# Altium schematic symbol library Resistors.SchLib: 9 symbols
Pins are listed as number, name and electrical type; pins without a type are passive.

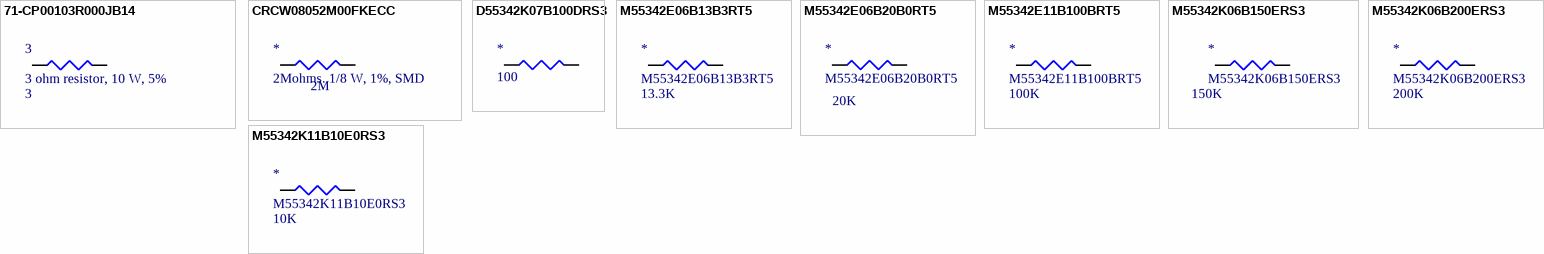
[diagram p0: symbols 71-CP00103R000JB14 to M55342K11B10E0RS3]

## 71-CP00103R000JB14
designator 3, comment 3 ohm resistor, 10 W, 5%
3; Parameter 1: 3
pins: 1, 2

## CRCW08052M00FKECC
designator *, comment 2Mohms. 1/8 W, 1%, SMD
2M; Parameter 1: 2M
pins: 1, 2

## D55342K07B100DRS3
designator *, comment 100 ohm resistor, 1 % , 1/4 W  (value not drawn)
100; Parameter 1: 100
pins: 1, 2

## M55342E06B13B3RT5
designator *  value 13.3K
13.3K
footprint *RESC2012X64N
pins: 1, 2

## M55342E06B20B0RT5
designator *  value 20K
20K
footprint *RESC2012X64N
pins: 1, 2

## M55342E11B100BRT5
designator *  value 100K
100K
footprint *RESC1005X84N
pins: 1, 2

## M55342K06B150ERS3
designator *  value 150K
150K
footprint *RESC2012X64N
pins: 1, 2

## M55342K06B200ERS3
designator *  value 200K
200K
footprint *RESC2012X64N
pins: 1, 2

## M55342K11B10E0RS3
designator *  value 10K
10K
footprint *RESC1005X84N
pins: 1, 2